# Altium schematic symbol library KX126-1063.SchLib: 1 symbol
Pins are listed as number, name and electrical type; pins without a type are passive.

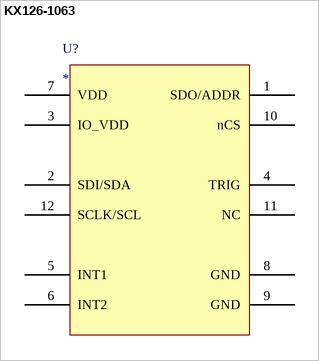
[diagram p0: symbol KX126-1063]

## KX126-1063
designator U?
footprint KIONIX_KXTJ3-1057
pins: 1 SDO/ADDR, 2 SDI/SDA, 3 IO_VDD, 4 TRIG, 5 INT1, 6 INT2, 7 VDD, 8 GND, 9 GND, 10 nCS, 11 NC, 12 SCLK/SCL